# EAGLE library part TC4427AEOA (library TC4427AEOA)
Microchip TC4427AEOA, Dual MOSFET Power Driver 1.5A, 4.5 18 V, Non-Inverting, 8-Pin SOIC Source: Datasheet <https://componentsearchengine.com/Datasheets/2/TC4427AEOA.pdf>
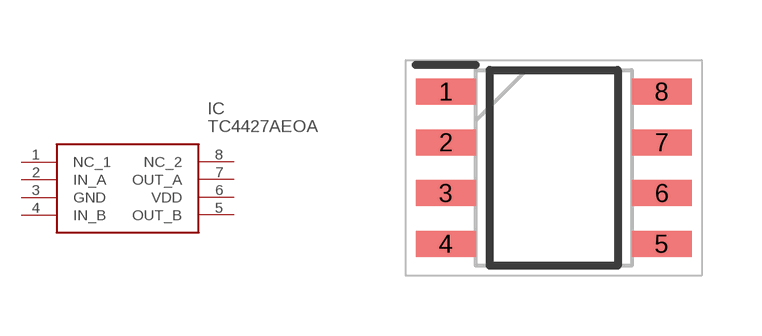
[diagram p0: symbol with the pads of SOIC127P600X175-8N; footprint SOIC127P600X175-8N]

Designator prefix IC

## TC4427AEOA (Arrow_Part_Number: TC4427AEOA; Arrow_Price-Stock: https://www.arrow.com/en/products/tc4427aeoa/microchip-technology; Description: Microchip TC4427AEOA, Dual MOSFET Power Driver 1.5A, 4.5 18 V, Non-Inverting, 8-Pin SOIC; Height: 1.75mm; Manufacturer_Name: Microchip; Manufacturer_Part_Number: TC4427AEOA; Mouser_Part_Number: 579-TC4427AEOA; Mouser_Price-Stock: https://www.mouser.co.uk/ProductDetail/Microchip-Technology/TC4427AEOA?qs=DYhulPWWrttHSUDDCtmJag%3D%3D)  [SOIC127P600X175-8N]
1  NC_1
2  IN_A
3  GND
4  IN_B
5  OUT_B
6  VDD
7  OUT_A
8  NC_2

## Footprint SOIC127P600X175-8N (pad centres in mm)
(OA) – Narrow, 3.90 mm Body [SOIC]
smd 1.5 x 0.65: 1 -2.7,1.905; 2 -2.7,0.635; 3 -2.7,-0.635; 4 -2.7,-1.905; 5 2.7,-1.905; 6 2.7,-0.635; 7 2.7,0.635; 8 2.7,1.905